# Altium footprint library MS5535.PcbLib: 1 footprints
Each footprint in its own frame and in the unit in brackets; x right, y up, seen from the top. Pads: shape width x height; smd on the part's side, far side on the other; paste and mask are expansions set on the pad; w line width, h text height; cw(c..) or ccw(c..) is an arc to the next point about the centre after c.
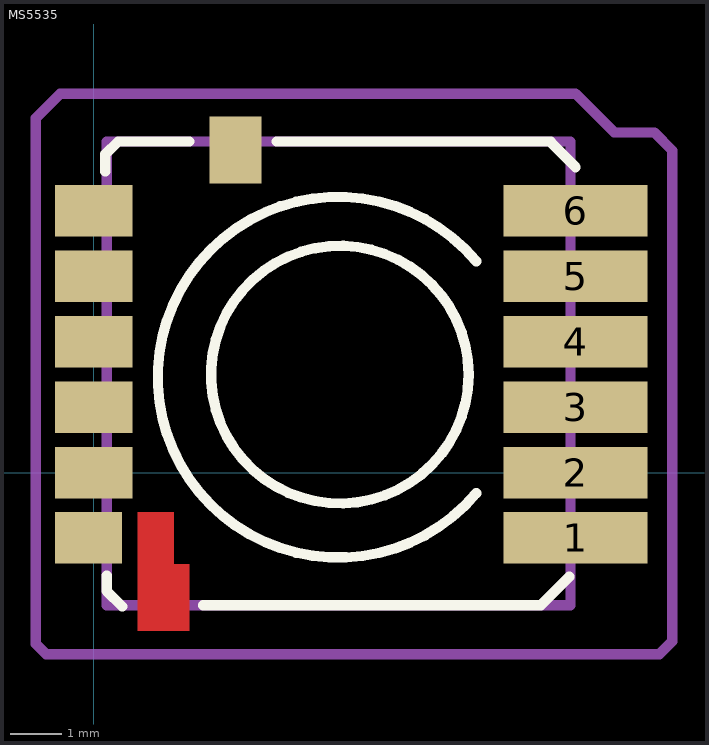
[diagram p0: the footprint, top view; thin cyan lines are the x and y axes]

## MS5535 [mm] "Pressure Sensor"
pads (13):
  rect 2.8x1 smd: 1(9.35,-1.27) 2(9.35,0) 3(9.35,1.27) 4(9.35,2.54) 5(9.35,3.81) 6(9.35,5.08)
  rect 1.3x1 smd: ""(-0.1,-1.27)
  rect 1.5x1 smd: ""(0,0) ""(0,1.27) ""(0,2.54) ""(0,3.81) ""(0,5.08)
  rect 1x1.3 smd: ""(2.75,6.26)
Top Layer:
  region: 1.85,-3.075 1.85,-1.775 1.55,-1.775 1.55,-0.775 0.85,-0.775 0.85,-3.075
Top Overlay:
  circle w0.2: c4.775,1.9 r2.5
  lines w0.2: 0.225,5.85 0.225,6.175 0.475,6.425 1.85,6.425 ; 0.25,-2 0.25,-2.3 0.55,-2.6 ; 2.125,-2.575 8.675,-2.575 9.225,-2.025 ; 3.55,6.425 8.675,6.425 8.825,6.425 8.875,6.425 8.875,6.4 9.35,5.925 ; 7.424,-0.4 cw(c4.743,1.85) 7.424,4.1
Top Solder:
  rectangle: 0.55,-1.875 0.85,-0.5
  region: 1.95,-1.675 1.65,-1.675 1.65,-0.675 0.75,-0.675 0.75,-3.175 1.95,-3.175
Mechanical 13:
  lines w0.2: 0.25,-2.575 0.25,6.425 9.25,6.425 9.25,-2.575 0.25,-2.575
Mechanical 15:
  lines w0.2: -1.125,-3.325 -0.925,-3.525 10.975,-3.525 11.225,-3.275 11.225,6.25 10.875,6.6 10.1,6.6 9.35,7.35 -0.65,7.35 -1.125,6.875 -1.125,-3.325
3D body: height 4.48, standoff 0, extent 0.25,-2.575 9.25,6.425